# EAGLE library part 61202021721 (library Wurth_Elektronik_Electromechanic_Wire_to_Board_Connectors_rev15c)
WR-BHD 2.54mm Male Angled Box Header, 20 Pins=>Code : Con_WTB_BHD_2.54_Male_THT_WS_61202021721 <http://katalog.we-online.de/media/thumbs2/eican/thb_Con_WTB_BHD_2.54_Male_THT_WS_6120xx21721_pf2.jpg> Details see: http://katalog.we-online.de/en/em/612_0xx_217_21 Created 2014-06-05, Karrer Zheng 2014 (C) Würth Elektronik
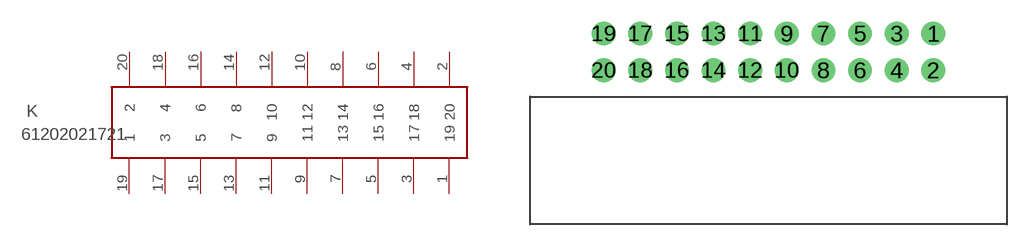
[diagram p149: symbol with the pads of 61202021721; footprint 61202021721]

Designator prefix K

## 61202021721  [61202021721]
1  19  pas
2  20  pas
3  17  pas
4  18  pas
5  15  pas
6  16  pas
7  13  pas
8  14  pas
9  11  pas
10  12  pas
11  9  pas
12  10  pas
13  7  pas
14  8  pas
15  5  pas
16  6  pas
17  3  pas
18  4  pas
19  1  pas
20  2  pas

## Footprint 61202021721 (pad centres in mm)
WR-BHD 2.54mm Male Angled Box Header, 20 Pins
drill 1.1: 1 2.54,1.27; 2 2.54,-1.27; 3 0,1.27; 4 0,-1.27; 5 -2.54,1.27; 6 -2.54,-1.27; 7 -5.08,1.27; 8 -5.08,-1.27; 9 -7.62,1.27; 10 -7.62,-1.27; 11 -10.16,1.27; 12 -10.16,-1.27; 13 -12.7,1.27; 14 -12.7,-1.27; 15 -15.24,1.27; 16 -15.24,-1.27; 17 -17.78,1.27; 18 -17.78,-1.27; 19 -20.32,1.27; 20 -20.32,-1.27